# EAGLE library part SN75176AP (library dviid)
The SN75176A is differential bus transceiver RS422.
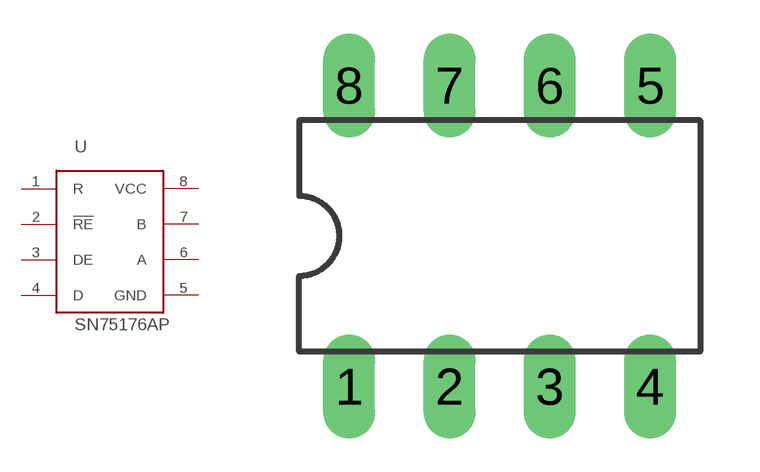
[diagram p9: symbol with the pads of DIL08; footprint DIL08]

Designator prefix -

## SN75176AP  [DIL08]
1  R  in
2  !RE  in
3  DE  in
4  D  out
5  GND  pwr
6  A
7  B
8  VCC  pwr

## Footprint DIL08 (pad centres in mm)
drill 0.813 long: 1 -3.81,-3.81; 2 -1.27,-3.81; 3 1.27,-3.81; 4 3.81,-3.81; 5 3.81,3.81; 6 1.27,3.81; 7 -1.27,3.81; 8 -3.81,3.81